# EAGLE library part TP4056 (library SIH26113_Maternity_Assist_Belt)
NanJing Top Power TP4056-42-SOP8-PP 1 A standalone linear Li-ion charger, 4.2 V float. Pin map from the TP4056 datasheet pin description (page 2).
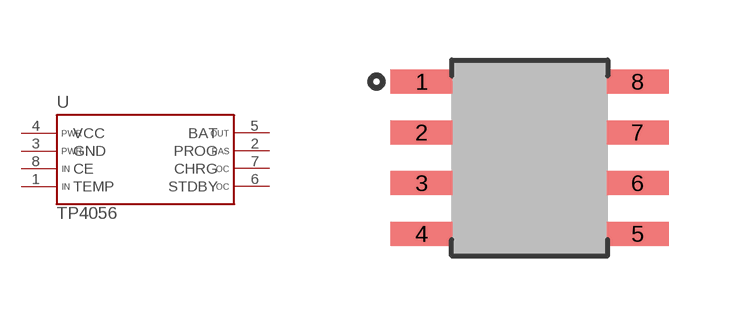
[diagram p5: symbol with the pads of SOIC-8-N; footprint SOIC-8-N]

Designator prefix U

## TP4056  [SOIC-8-N]
1  TEMP  in
2  PROG  pas
3  GND  pwr
4  VCC  pwr
5  BAT  out
6  STDBY  oc
7  CHRG  oc
8  CE  in

## Footprint SOIC-8-N (pad centres in mm)
SOIC-8 narrow (150 mil body). Body 4.90 x 3.90 mm, lead span 6.00 mm, 1.27 mm pitch. Lands 1.55 x 0.60 mm at 5.40 mm span (IPC-7351B SOIC127P600X175-8N Nominal).
smd 1.55 x 0.6: 1 -2.7,1.905; 2 -2.7,0.635; 3 -2.7,-0.635; 4 -2.7,-1.905; 5 2.7,-1.905; 6 2.7,-0.635; 7 2.7,0.635; 8 2.7,1.905